# EAGLE library part 6570XX130101_657008130101 (library Wurth_Connectors_WR-MPC5)
WR-MPC5 5.70 mm Male Header Single Row Right Angled Kind Properties Pitch 5.7 mm Rows Single Type Right Angled Operating Temperature -40 up to +105 °C Durability 25 Mating cycles Material Properties Insulator Material LCP Insulator Color Black Insulator Flammability Rating UL94 V-0 Pin Material Copper Alloy Pin Plating Tin over Nickel Packaging Properties Packaging Tray Electric Properties IR 26 A Working Voltage 600 V (AC) Withstanding Voltage 2200 V (AC) Contact Resistance 2 mΩ Certification UL Approval E323964 <https://www.we-online.com/components/media/o731506v209%20WR-MPC5_6570xx130101_Multi-parts.jpg> Details see: www.we-online.com/components/products/WR-MPC5_5_70_MM_MALE_HEADER_SINGLE_ROW_RIGHT_ANGLED <www.we-online.com/catalog/WR-MPC5_5_70_MM_MALE_HEADER_SINGLE_ROW_RIGHT_ANGLED/?utm_source=eagle_model&utm_medium=description_link&utm_campaign=eisos_eagle> Updated by Ella 2023-10-09 2023 (C) Würth Elektronik
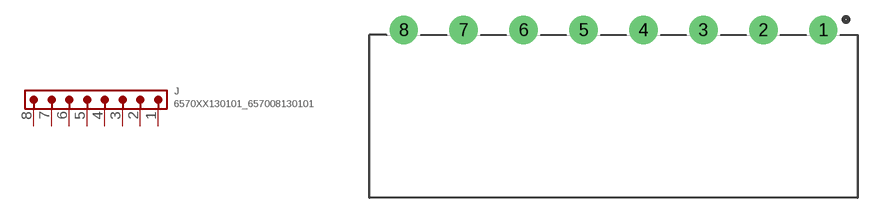
[diagram p11: symbol with the pads of 657008130101; footprint 657008130101]

Designator prefix J

## 6570XX130101_657008130101 (CONTACT-RESISTANCE: 2mOhm; DATASHEET-URL: https://www.we-online.com/redexpert/spec/657008130101?ae; GENDER: Male; IR: 26A; MOUNT: THT; PART-NUMBER: 657008130101; PITCH: 5.7mm; POLARITY: 8; ROWS: single; TYPE: Right Angled; VALUE: 657008130101; WORKING-VOLTAGE: 600V (AC))  [657008130101]
1  1  pas
2  2  pas
3  3  pas
4  4  pas
5  5  pas
6  6  pas
7  7  pas
8  8  pas

## Footprint 657008130101 (pad centres in mm)
WR-MPC5 THT Single Row Male Header Right Angled THT, 8pins
drill 1.8: 1 19.95,0; 2 14.25,0; 3 8.55,0; 4 2.85,0; 5 -2.85,0; 6 -8.55,0; 7 -14.25,0; 8 -19.95,0